# Altium footprint library crystal.PCBLIB: 66 footprints (part 1 of 5)
Each footprint in its own frame and in the unit in brackets; x right, y up, seen from the top. Pads: shape width x height; smd on the part's side, far side on the other; paste and mask are expansions set on the pad; w line width, h text height; cw(c..) or ccw(c..) is an arc to the next point about the centre after c.
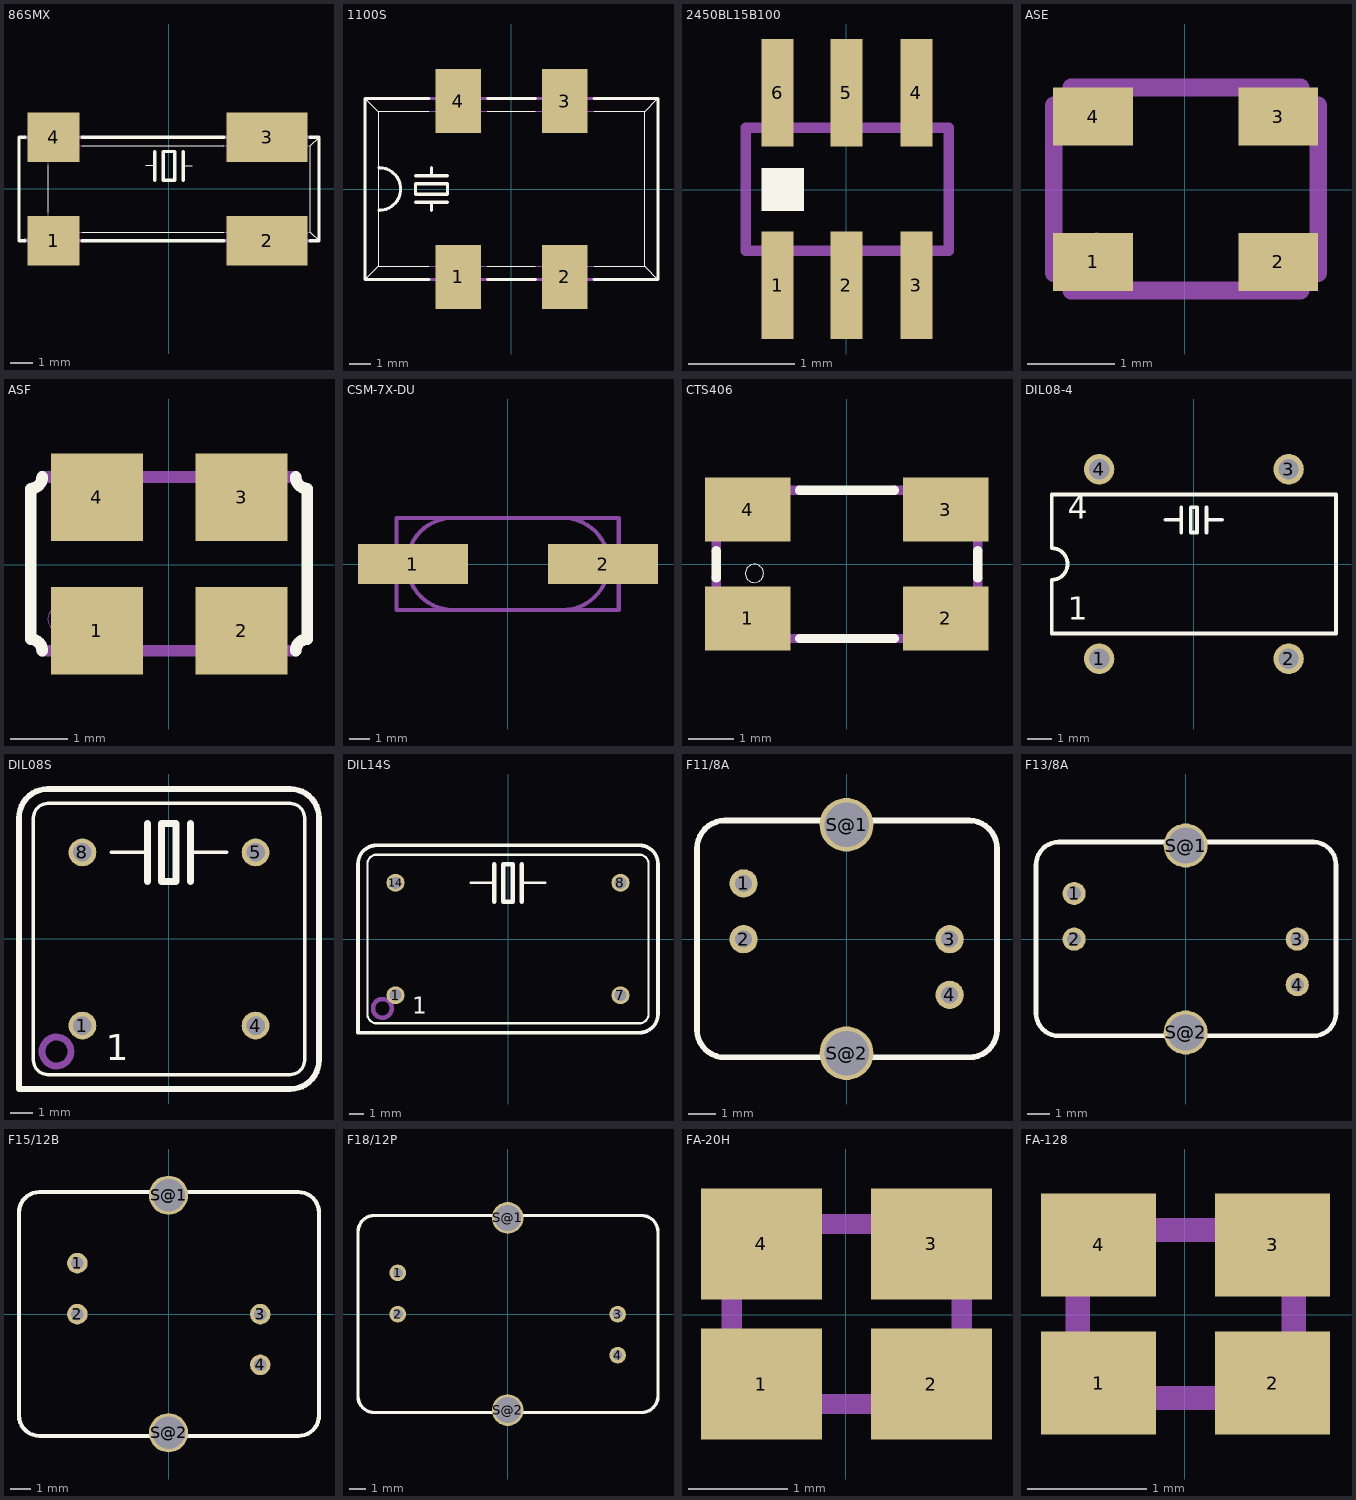
[diagram p0: the footprints below, top view; thin cyan lines are the x and y axes]

## 86SMX [mil]
pads (4):
  rect 90x86 smd: 1(-200,-90) 4(-200,90)
  rect 140x86 smd: 2(170,-90) 3(170,90)
Top Overlay:
  lines w2: -260,-90 -250,-87 ; -260,90 -250,87 ; -210,-40 -210,40 ; -150,-75 95,-75 ; -150,75 95,75 ; -40,40 -25,40 ; 25,40 40,40 ; 260,-90 245,-75 245,75 260,90
  lines w6: -250,-90 -260,-90 -260,90 -250,90 ; -150,-90 95,-90 ; -150,90 95,90 ; -25,15 -25,40 -25,65 ; 25,15 25,40 25,65 ; 245,-90 260,-90 260,90 245,90 ; -10,15 -10,65 10,65 10,15 -10,15
Mechanical 16:
  lines w2: -250,-87 -210,-75 ; -250,87 -210,75 ; -210,-40 -210,-75 ; -210,40 -210,75 ; -150,-75 -210,-75 ; -150,75 -210,75 ; 95,-75 245,-75 ; 95,75 245,75
  lines w6: -250,-90 -235,-90 ; -250,90 -235,90 ; -150,-90 -165,-90 ; -150,90 -165,90 ; 95,-90 245,-90 ; 95,90 245,90 ; 110,-90 110,-100 230,-100 230,-90 ; 110,90 110,100 230,100 230,90 ; -235,-90 -165,-90 ; -235,-90 -235,-100 -165,-100 -165,-90 ; -235,90 -165,90 ; -235,90 -235,100 -165,100 -165,90

## 1100S [mil]
pads (4):
  rect 86x120 smd: 1(-100,-165) 2(100,-165) 3(100,165) 4(-100,165)
Top Overlay:
  lines w2: -275,-170 -250,-145 ; -275,170 -250,145 ; -155,-145 -250,-145 ; -155,145 -250,145 ; -45,-145 45,-145 ; -45,145 45,145 ; 155,-145 250,-145 ; 155,145 250,145 ; 275,-170 250,-145 ; 275,170 250,145 ; -250,-145 -250,145 ; 250,-145 250,145
  lines w6: -248.03,-40 ccw(c-248.03,0) -248.03,40 ; -180,-25 -150,-25 ; -180,25 -150,25 ; -155,-170 -275,-170 -275,170 -155,170 ; -150,-40 -150,-25 ; -150,40 -150,25 ; -120,-25 -150,-25 ; -120,25 -150,25 ; -45,-170 45,-170 ; -45,170 45,170 ; 155,-170 275,-170 275,170 155,170 ; -180,-10 -120,-10 -120,10 -180,10 -180,-10
Mechanical 16:
  lines w2: -155,-145 -45,-145 ; -155,145 -45,145 ; 45,-145 155,-145 ; 45,145 155,145
  lines w6: -155,-170 -45,-170 ; -155,170 -45,170 ; -130,-170 -130,-195 -70,-195 -70,-170 ; -130,170 -130,195 -70,195 -70,170 ; 45,-170 70,-170 ; 45,170 70,170 ; 155,-170 130,-170 ; 155,170 130,170 ; 70,-170 130,-170 ; 70,-170 70,-195 130,-195 130,-170 ; 70,170 130,170 ; 70,170 70,195 130,195 130,170

## 2450BL15B100 [mil]
pads (6):
  rect 12x40 smd: 1(-25.59,-35.43) 2(0,-35.43) 3(26,-35.43) 4(26,36) 5(0,36) 6(-25.59,36)
Top Overlay:
  rectangle: -31.5,-7.87 -15.75,8
Mechanical 16:
  lines w4: -37.4,-22.64 38,-22.64 38,23 -37.4,23 -37.4,-22.64

## ASE [mil]
pads (4):
  rect 36x26 smd: 1(-41.34,-32.48) 2(42,-32.48) 3(42,33) 4(-41.34,33)
Mechanical 16:
  circle w0: c-39.37,-27.56 r8
  lines w8: -59.06,-37.4 -59.06,38 ccw(c-59.12,45.94) -51.18,46 52,46 ccw(c60,46) 60,38 60,-37.4 ccw(c59.94,-45.34) 52,-45.28 -51.18,-45.28 ccw(c-59.06,-45.28) -59.06,-37.4

## ASF [mil]
pads (4):
  rect 63x60 smd: 1(-49.21,-45.28) 2(50,-45.28) 3(50,46) 4(-49.21,46)
Top Overlay:
  lines w8: -86.61,-59.06 ccw(c-94.49,-59.06) -94.49,-51.18 -94.49,52 ccw(c-94.55,59.94) -86.61,60 ; 87,-59.06 cw(c94.94,-59.12) 95,-51.18 95,52 cw(c95,60) 87,60
Mechanical 16:
  circle w0: c-74.8,-37.4 r8
  lines w8: -86.61,-59.06 87,-59.06 ; -86.61,60 87,60

## CSM-7X-DU [mil]
pads (2):
  rect 217x79 smd: 1(-187.01,0) 2(188,0)
Mechanical 16:
  lines w8: 108,-90.55 ccw(c108.5,0.22) 109,91 ; -108.27,-90.55 219,-90.55 219,91 109,91 ; -108.27,-90.55 -219.49,-90.55 -219.49,91 -107.28,91 ; -108.27,-90.55 cw(c-107.78,0.22) -107.28,91 ; -107.28,91 109,91

## CTS406 [mil]
pads (4):
  rect 75x56 smd: 1(-86.61,-47.24) 2(87,-47.24) 3(87,48) 4(-86.61,48)
Top Overlay:
  circle w0: c-80.71,-7.87 r8
  lines w8: -114.17,-11.81 -114.17,12 ; -41.34,-64.96 42,-64.96 ; -41.34,65 42,65 ; 115,-11.81 115,12
Mechanical 16:
  lines w8: -114.17,-11.81 -114.17,-48.23 cw(c-114.24,-65.03) -97.44,-64.96 -41.34,-64.96 ; -114.17,12 -114.17,49 ccw(c-113.87,65.44) -97.44,65 -41.34,65 ; 42,-64.96 98,-64.96 cw(c114.94,-65.17) 115,-48.23 115,-11.81 ; 42,65 98,65 ccw(c114.57,65.57) 115,49 115,12

## DIL08-4 [mil]
pads (4):
  round 48 hole 32: 1(-150,-150) 2(150,-150) 3(150,150) 4(-150,150)
Top Overlay:
  lines w6: -45,70 -20,70 ; -20,50 -20,70 ; -20,90 -20,70 ; 20,50 20,70 ; 20,90 20,70 ; 45,70 20,70 ; -225,-110 -225,-25 ccw(c-225,0) -225,25 -225,110 225,110 225,-110 -225,-110 ; -5,50 -5,90 5,90 5,50 -5,50
  text "1" at -200,-100 h62
  text "4" at -200,60 h62

## DIL08S [mil]
pads (4):
  round 48 hole 32: 1(-150,-150) 4(150,-150) 5(150,150) 8(-150,150)
Top Overlay:
  lines w6: -100,150 -37,150 ; 37,150 100,150 ; -235,-210 -235,210 cw(c-210,210) -210,235 210,235 cw(c210,210) 235,210 235,-210 cw(c210,-210) 210,-235 -210,-235 cw(c-210,-210) -235,-210
  lines w10: -260,-260 210,-260 ccw(c210,-210) 260,-210 260,210 ccw(c210,210) 210,260 -210,260 ccw(c-210,210) -260,210 -260,-260
  lines w12: -37,100 -37,150 -37,200 ; 37,100 37,150 37,200 ; -13,100 -13,200 12,200 12,100 -13,100
  text "1" at -110,-225 h77.5
Mechanical 16:
  circle w12: c-195,-195 r25

## DIL14S [mil]
pads (4):
  round 48 hole 32: 1(-300,-150) 7(300,-150) 8(300,150) 14(-300,150)
Top Overlay:
  lines w6: -100,150 -37,150 ; 37,150 100,150 ; -375,-200 -375,200 cw(c-350,200) -350,225 350,225 cw(c350,200) 375,200 375,-200 cw(c350,-200) 350,-225 -350,-225 cw(c-350,-200) -375,-200
  lines w10: -400,-250 350,-250 ccw(c350,-200) 400,-200 400,200 ccw(c350,200) 350,250 -350,250 ccw(c-350,200) -400,200 -400,-250
  lines w12: -37,100 -37,150 -37,200 ; 37,100 37,150 37,200 ; -13,100 -13,200 12,200 12,100 -13,100
  text "1" at -255,-215 h77.5
Mechanical 16:
  circle w12: c-335,-185 r25

## F11/8A [mil]
pads (6):
  round 40 hole 24: 1(-145.67,79) 2(-145.67,0) 3(146,0) 4(146,-78.74)
  round 76 hole 63: S@1(0,162) S@2(0,-161.42)
Top Overlay:
  lines w8: -211.61,-127.95 -211.61,128 cw(c-171.93,128.31) -172.24,168 174,168 cw(c173.5,128.5) 213,128 213,-127.95 cw(c173.81,-128.14) 174,-167.32 -172.24,-167.32 cw(c-172.24,-127.95) -211.61,-127.95

## F13/8A [mil]
pads (6):
  round 40 hole 24: 1(-192.91,79) 2(-192.91,0) 3(193,0) 4(193,-78.74)
  round 76 hole 63: S@1(0,162) S@2(0,-161.42)
Top Overlay:
  lines w8: -258.86,-127.95 -258.86,128 cw(c-219.17,128.31) -219.49,168 221,168 cw(c220.5,128.5) 260,128 260,-127.95 cw(c220.81,-128.14) 221,-167.32 -219.49,-167.32 cw(c-219.49,-127.95) -258.86,-127.95

## F15/12B [mil]
pads (6):
  round 40 hole 24: 1(-177.17,99) 2(-177.17,0) 3(178,0) 4(178,-98.43)
  round 76 hole 63: S@1(0,231) S@2(0,-230.31)
Top Overlay:
  lines w8: -290.35,-196.85 -290.35,197 cw(c-250.67,197.31) -250.98,237 252,237 cw(c252,197) 292,197 292,-196.85 cw(c252.31,-196.54) 252,-236.22 -250.98,-236.22 cw(c-250.98,-196.85) -290.35,-196.85

## F18/12P [mil]
pads (6):
  round 40 hole 24: 1(-263.78,99) 2(-263.78,0) 3(264,0) 4(264,-98.43)
  round 76 hole 63: S@1(0,231) S@2(0,-230.31)
Top Overlay:
  lines w8: -359.25,-196.85 -359.25,197 cw(c-319.57,197.31) -319.88,237 321,237 cw(c321,197) 361,197 361,-196.85 cw(c321.31,-196.54) 321,-236.22 -319.88,-236.22 cw(c-319.88,-196.85) -359.25,-196.85

## FA-20H [mil]
pads (4):
  rect 48x44 smd: 1(-33.46,-27.56) 2(34,-27.56) 3(34,28) 4(-33.46,28)
Top Paste:
  rectangle: -55.12,8 -11.81,48
  rectangle: 12,8 56,48
  rectangle: -55.12,-47.24 -11.81,-7.87
  region: 0,0 10,0 10,10 0,10
Top Solder:
  rectangle: -59.06,4 -7.87,52
  rectangle: 8,4 60,52
  rectangle: -59.06,-51.18 -7.87,-3.94
  region: 0,0 10,0 10,10 0,10
Mechanical 16:
  lines w8: -45.28,-35.43 46,-35.43 46,36 -45.28,36 -45.28,-35.43

## FA-128 [mil]
pads (4):
  rect 38x34 smd: 1(-28.54,-22.64) 2(29,-22.64) 3(29,23) 4(-28.54,23)
Top Paste:
  rectangle: -45.28,8 -11.81,38
  rectangle: 12,8 46,38
  rectangle: -45.28,-37.4 -11.81,-7.87
  region: 0,0 10,0 10,10 0,10
Top Solder:
  rectangle: -49.21,4 -7.87,42
  rectangle: 8,4 50,42
  rectangle: -49.21,-41.34 -7.87,-3.94
  region: 0,0 10,0 10,10 0,10
Mechanical 16:
  lines w8: -35.43,-27.56 36,-27.56 36,28 -35.43,28 -35.43,-27.56